# EAGLE library part LM386N-3 (library aarons)
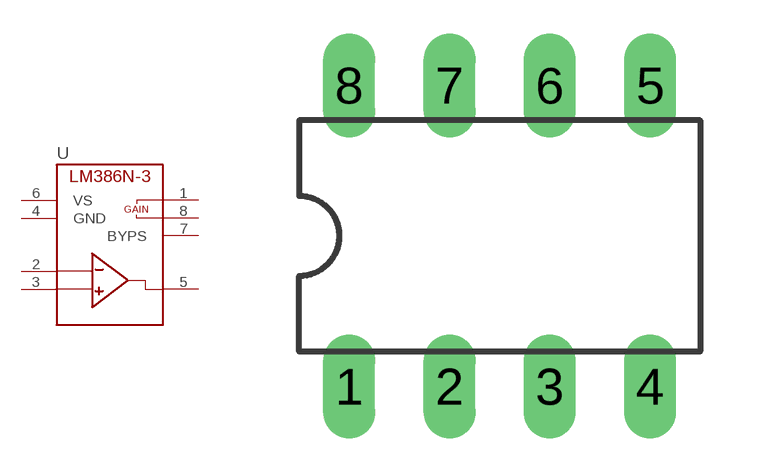
[diagram p7: symbol with the pads of DIL08; footprint DIL08]

Designator prefix U

## LM386N-3  [DIL08]
1  GN
2  -IN
3  +IN
4  GND
5  VOUT
6  VS
7  BYPS
8  GN2

## Footprint DIL08 (pad centres in mm)
Dual In Line Package
drill 0.813 long: 1 -3.81,-3.81; 2 -1.27,-3.81; 3 1.27,-3.81; 4 3.81,-3.81; 5 3.81,3.81; 6 1.27,3.81; 7 -1.27,3.81; 8 -3.81,3.81